# Altium footprint library Relays.PcbLib: 3 footprints
Each footprint in its own frame and in the unit in brackets; x right, y up, seen from the top. Pads: shape width x height; smd on the part's side, far side on the other; paste and mask are expansions set on the pad; w line width, h text height; cw(c..) or ccw(c..) is an arc to the next point about the centre after c.
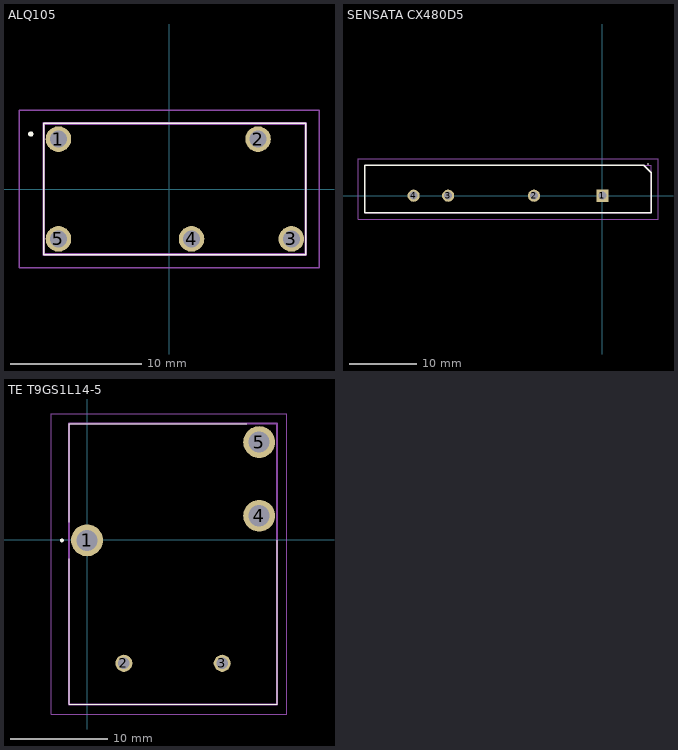
[diagram p0: the footprints below, top view; thin cyan lines are the x and y axes]

## ALQ105 [mm] "ALQ (LQ) series: 1 Form C, 10A Small Power Relays"
height 15.6
pads (5):
  round 1.95 hole 1.3: 1(-8.44,3.81) 2(6.8,3.81) 3(9.34,-3.81) 4(1.72,-3.81) 5(-8.44,-3.81)
Top Overlay:
  lines w0.1: -9.55,-5 -9.55,5 10.45,5 10.45,-5 -9.55,-5
  lines w0.2: -10.55,4.1 ccw(c-10.55,4.2) -10.55,4.3 ccw(c-10.55,4.2) -10.55,4.1
Mechanical 13:
  lines w0.2: -9.55,-5 -9.55,5 10.45,5 10.45,-5 -9.55,-5
Mechanical 15:
  lines w0.1: -11.45,-6 -11.45,6 11.45,6 11.45,-6 -11.45,-6
3D body "ALQ105.stp": height 15, standoff -5, extent -9.55,-5 10.45,5

## SENSATA CX480D5 [mm]
pads (4):
  rect 1.8x1.8 hole 1.2: 1(0,0)
  round 1.8 hole 1.2: 2(-10.1,0) 3(-22.8,0) 4(-27.9,0)
Top Overlay:
  lines w0.1: 6.681,4.699 cw(c6.731,4.699) 6.781,4.699 cw(c6.731,4.699) 6.681,4.699
  lines w0.2: -35.125,-2.5 -35.125,4.475 6.145,4.475 7.225,3.395 7.225,-2.5 -35.125,-2.5
Mechanical 13:
  lines w0.1: -35.125,-2.5 -35.125,4.475 7.225,4.475 7.225,-2.5 -35.125,-2.5
Mechanical 15:
  lines w0.1: -36.125,-3.5 -36.125,5.475 8.225,5.475 8.225,-3.5 -36.125,-3.5
3D body "CX480D5.stp": height 28, standoff -5, extent -35.125,-2.5 7.225,4.475

## TE T9GS1L14-5 [mm]
pads (5):
  round 3.29 hole 2.19: 1(0,-0.06) 4(17.78,2.48) 5(17.78,10.1)
  round 1.77 hole 1.17: 2(3.81,-12.76) 3(13.97,-12.76)
Top Overlay:
  lines w0.1: -1.86,-1.96 -1.86,-17 19.64,-17 19.64,-0.06 ; -1.86,1.84 -1.86,12 16.51,12
  lines w0.2: -2.6,-0.16 cw(c-2.6,-0.06) -2.6,0.04 cw(c-2.6,-0.06) -2.6,-0.16
Mechanical 13:
  lines w0.2: -1.86,-17 -1.86,12 19.64,12 19.64,-17 -1.86,-17
Mechanical 15:
  lines w0.1: -3.7,-18 -3.7,13 20.64,13 20.64,-18 -3.7,-18
3D body "T9GS1L14-5.stp": height 15.8, standoff -5, extent -1.86,-17 19.64,12